# EAGLE library part ATSAM3X8EA-AU (library LinnesLab-Microcontrollers)
Embedded microcontroller ATSAM3X8EA-AU LQFP 144 (20x20) Microchip Technology 32-Bit 84 MHz I/O number 103 Check availability <https://pricing.snapeda.com/parts/ATSAM3X8EA-AU/Microchip/view-part?ref=eda>
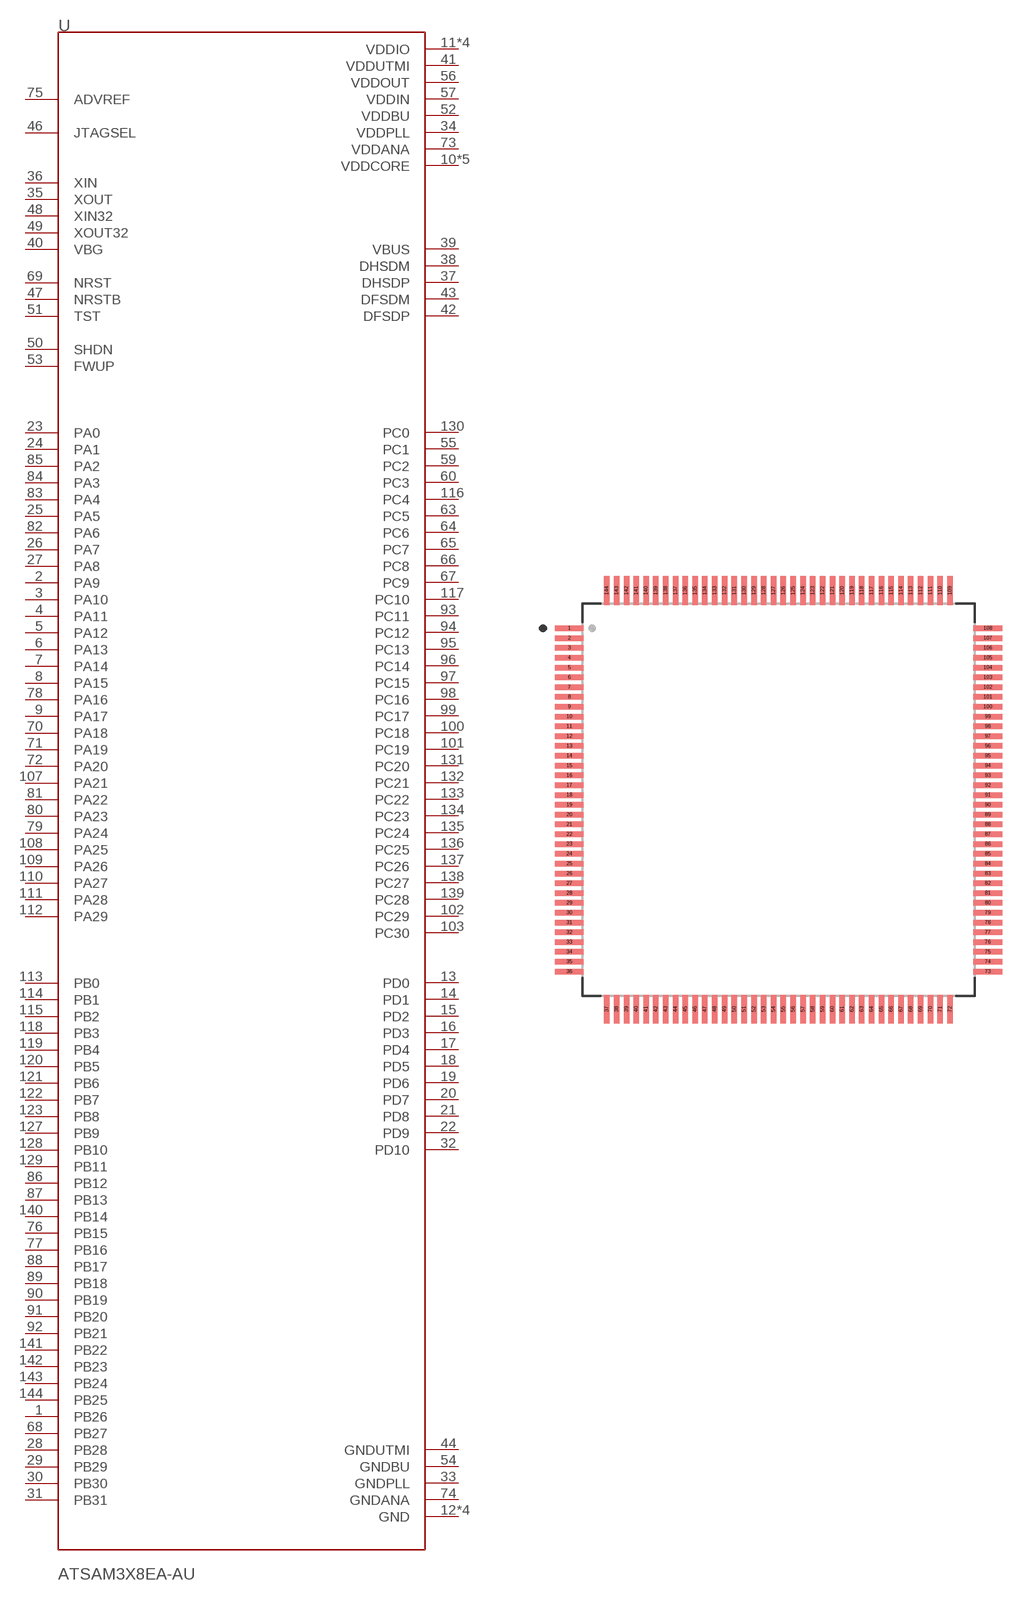
[diagram p27: symbol with the pads of QFP50P2200X2200X145-144N; footprint QFP50P2200X2200X145-144N]

Designator prefix U

## ATSAM3X8EA-AU (AVAILABILITY: In Stock; DESCRIPTION: ARM® Cortex®-M3 series Microcontroller IC 32-Bit Single-Core 84MHz 512KB (512K x 8) FLASH 144-LQFP (20x20); MF: Microchip; MP: ATSAM3X8EA-AU; PACKAGE: LQFP-144 Microchip; PRICE: None; PURCHASE-URL: https://pricing.snapeda.com/search/part/ATSAM3X8EA-AU/?ref=eda)  [QFP50P2200X2200X145-144N]
1  PB26
2  PA9
3  PA10
4  PA11
5  PA12
6  PA13
7  PA14
8  PA15
9  PA17
10  VDDCORE  pwr
11  VDDIO  pwr
12  GND  pwr
13  PD0
14  PD1
15  PD2
16  PD3
17  PD4
18  PD5
19  PD6
20  PD7
21  PD8
22  PD9
23  PA0
24  PA1
25  PA5
26  PA7
27  PA8
28  PB28
29  PB29
30  PB30
31  PB31
32  PD10
33  GNDPLL  pwr
34  VDDPLL  pwr
35  XOUT  out
36  XIN  in
37  DHSDP
38  DHSDM
39  VBUS  in
40  VBG  in
41  VDDUTMI  pwr
42  DFSDP
43  DFSDM
44  GNDUTMI  pwr
45  VDDCORE  pwr
46  JTAGSEL  in
47  NRSTB  in
48  XIN32  in
49  XOUT32  out
50  SHDN  out
51  TST  in
52  VDDBU  pwr
53  FWUP  in
54  GNDBU  pwr
55  PC1
56  VDDOUT  pwr
57  VDDIN  pwr
58  GND  pwr
59  PC2
60  PC3
61  VDDCORE  pwr
62  VDDIO  pwr
63  PC5
64  PC6
65  PC7
66  PC8
67  PC9
68  PB27
69  NRST
70  PA18
71  PA19
72  PA20
73  VDDANA  pwr
74  GNDANA  pwr
75  ADVREF  in
76  PB15
77  PB16
78  PA16
79  PA24
80  PA23
81  PA22
82  PA6
83  PA4
84  PA3
85  PA2
86  PB12
87  PB13
88  PB17
89  PB18
90  PB19
91  PB20
92  PB21
93  PC11
94  PC12
95  PC13
96  PC14
97  PC15
98  PC16
99  PC17
100  PC18
101  PC19
102  PC29
103  PC30
104  VDDCORE  pwr
105  VDDIO  pwr
106  GND  pwr
107  PA21
108  PA25
109  PA26
110  PA27
111  PA28
112  PA29
113  PB0
114  PB1
115  PB2
116  PC4
117  PC10
118  PB3
119  PB4
120  PB5
121  PB6
122  PB7
123  PB8
124  VDDCORE  pwr
125  VDDIO  pwr
126  GND  pwr
127  PB9
128  PB10
129  PB11
130  PC0
131  PC20
132  PC21
133  PC22
134  PC23
135  PC24
136  PC25
137  PC26
138  PC27
139  PC28
140  PB14
141  PB22
142  PB23
143  PB24
144  PB25

## Footprint QFP50P2200X2200X145-144N (pad centres in mm)
smd 1.47 x 0.28: 1 -10.67,8.75; 2 -10.67,8.25; 3 -10.67,7.75; 4 -10.67,7.25; 5 -10.67,6.75; 6 -10.67,6.25; 7 -10.67,5.75; 8 -10.67,5.25; 9 -10.67,4.75; 10 -10.67,4.25; 11 -10.67,3.75; 12 -10.67,3.25; 13 -10.67,2.75; 14 -10.67,2.25; 15 -10.67,1.75; 16 -10.67,1.25; 17 -10.67,0.75; 18 -10.67,0.25; 19 -10.67,-0.25; 20 -10.67,-0.75; 21 -10.67,-1.25; 22 -10.67,-1.75; 23 -10.67,-2.25; 24 -10.67,-2.75; 25 -10.67,-3.25; 26 -10.67,-3.75; 27 -10.67,-4.25; 28 -10.67,-4.75; 29 -10.67,-5.25; 30 -10.67,-5.75; 31 -10.67,-6.25; 32 -10.67,-6.75; 33 -10.67,-7.25; 34 -10.67,-7.75; 35 -10.67,-8.25; 36 -10.67,-8.75; 73 10.67,-8.75; 74 10.67,-8.25; 75 10.67,-7.75; 76 10.67,-7.25; 77 10.67,-6.75; 78 10.67,-6.25; 79 10.67,-5.75; 80 10.67,-5.25; 81 10.67,-4.75; 82 10.67,-4.25; 83 10.67,-3.75; 84 10.67,-3.25; 85 10.67,-2.75; 86 10.67,-2.25; 87 10.67,-1.75; 88 10.67,-1.25; 89 10.67,-0.75; 90 10.67,-0.25; 91 10.67,0.25; 92 10.67,0.75; 93 10.67,1.25; 94 10.67,1.75; 95 10.67,2.25; 96 10.67,2.75; 97 10.67,3.25; 98 10.67,3.75; 99 10.67,4.25; 100 10.67,4.75; 101 10.67,5.25; 102 10.67,5.75; 103 10.67,6.25; 104 10.67,6.75; 105 10.67,7.25; 106 10.67,7.75; 107 10.67,8.25; 108 10.67,8.75
smd 0.28 x 1.47: 37 -8.75,-10.67; 38 -8.25,-10.67; 39 -7.75,-10.67; 40 -7.25,-10.67; 41 -6.75,-10.67; 42 -6.25,-10.67; 43 -5.75,-10.67; 44 -5.25,-10.67; 45 -4.75,-10.67; 46 -4.25,-10.67; 47 -3.75,-10.67; 48 -3.25,-10.67; 49 -2.75,-10.67; 50 -2.25,-10.67; 51 -1.75,-10.67; 52 -1.25,-10.67; 53 -0.75,-10.67; 54 -0.25,-10.67; 55 0.25,-10.67; 56 0.75,-10.67; 57 1.25,-10.67; 58 1.75,-10.67; 59 2.25,-10.67; 60 2.75,-10.67; 61 3.25,-10.67; 62 3.75,-10.67; 63 4.25,-10.67; 64 4.75,-10.67; 65 5.25,-10.67; 66 5.75,-10.67; 67 6.25,-10.67; 68 6.75,-10.67; 69 7.25,-10.67; 70 7.75,-10.67; 71 8.25,-10.67; 72 8.75,-10.67; 109 8.75,10.67; 110 8.25,10.67; 111 7.75,10.67; 112 7.25,10.67; 113 6.75,10.67; 114 6.25,10.67; 115 5.75,10.67; 116 5.25,10.67; 117 4.75,10.67; 118 4.25,10.67; 119 3.75,10.67; 120 3.25,10.67; 121 2.75,10.67; 122 2.25,10.67; 123 1.75,10.67; 124 1.25,10.67; 125 0.75,10.67; 126 0.25,10.67; 127 -0.25,10.67; 128 -0.75,10.67; 129 -1.25,10.67; 130 -1.75,10.67; 131 -2.25,10.67; 132 -2.75,10.67; 133 -3.25,10.67; 134 -3.75,10.67; 135 -4.25,10.67; 136 -4.75,10.67; 137 -5.25,10.67; 138 -5.75,10.67; 139 -6.25,10.67; 140 -6.75,10.67; 141 -7.25,10.67; 142 -7.75,10.67; 143 -8.25,10.67; 144 -8.75,10.67